# Altium schematic symbol library Schematics.SchLib: 1 symbol
Pins are listed as number, name and electrical type; pins without a type are passive.

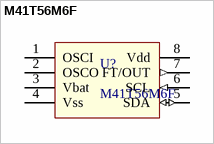
[diagram p0: symbol M41T56M6F]

## M41T56M6F
designator U?
I2C Real-time clock/calendar
footprint LC-SOIC-8_150mil
pins: 1 OSCI, 2 OSCO, 3 Vbat, 4 Vss, 5 SDA (io), 6 SCL (in), 7 FT/OUT (out), 8 Vdd